# Altium footprint library micro-motorola.PCBLIB: 28 footprints (part 1 of 2)
Each footprint in its own frame and in the unit in brackets; x right, y up, seen from the top. Pads: shape width x height; smd on the part's side, far side on the other; paste and mask are expansions set on the pad; w line width, h text height; cw(c..) or ccw(c..) is an arc to the next point about the centre after c.
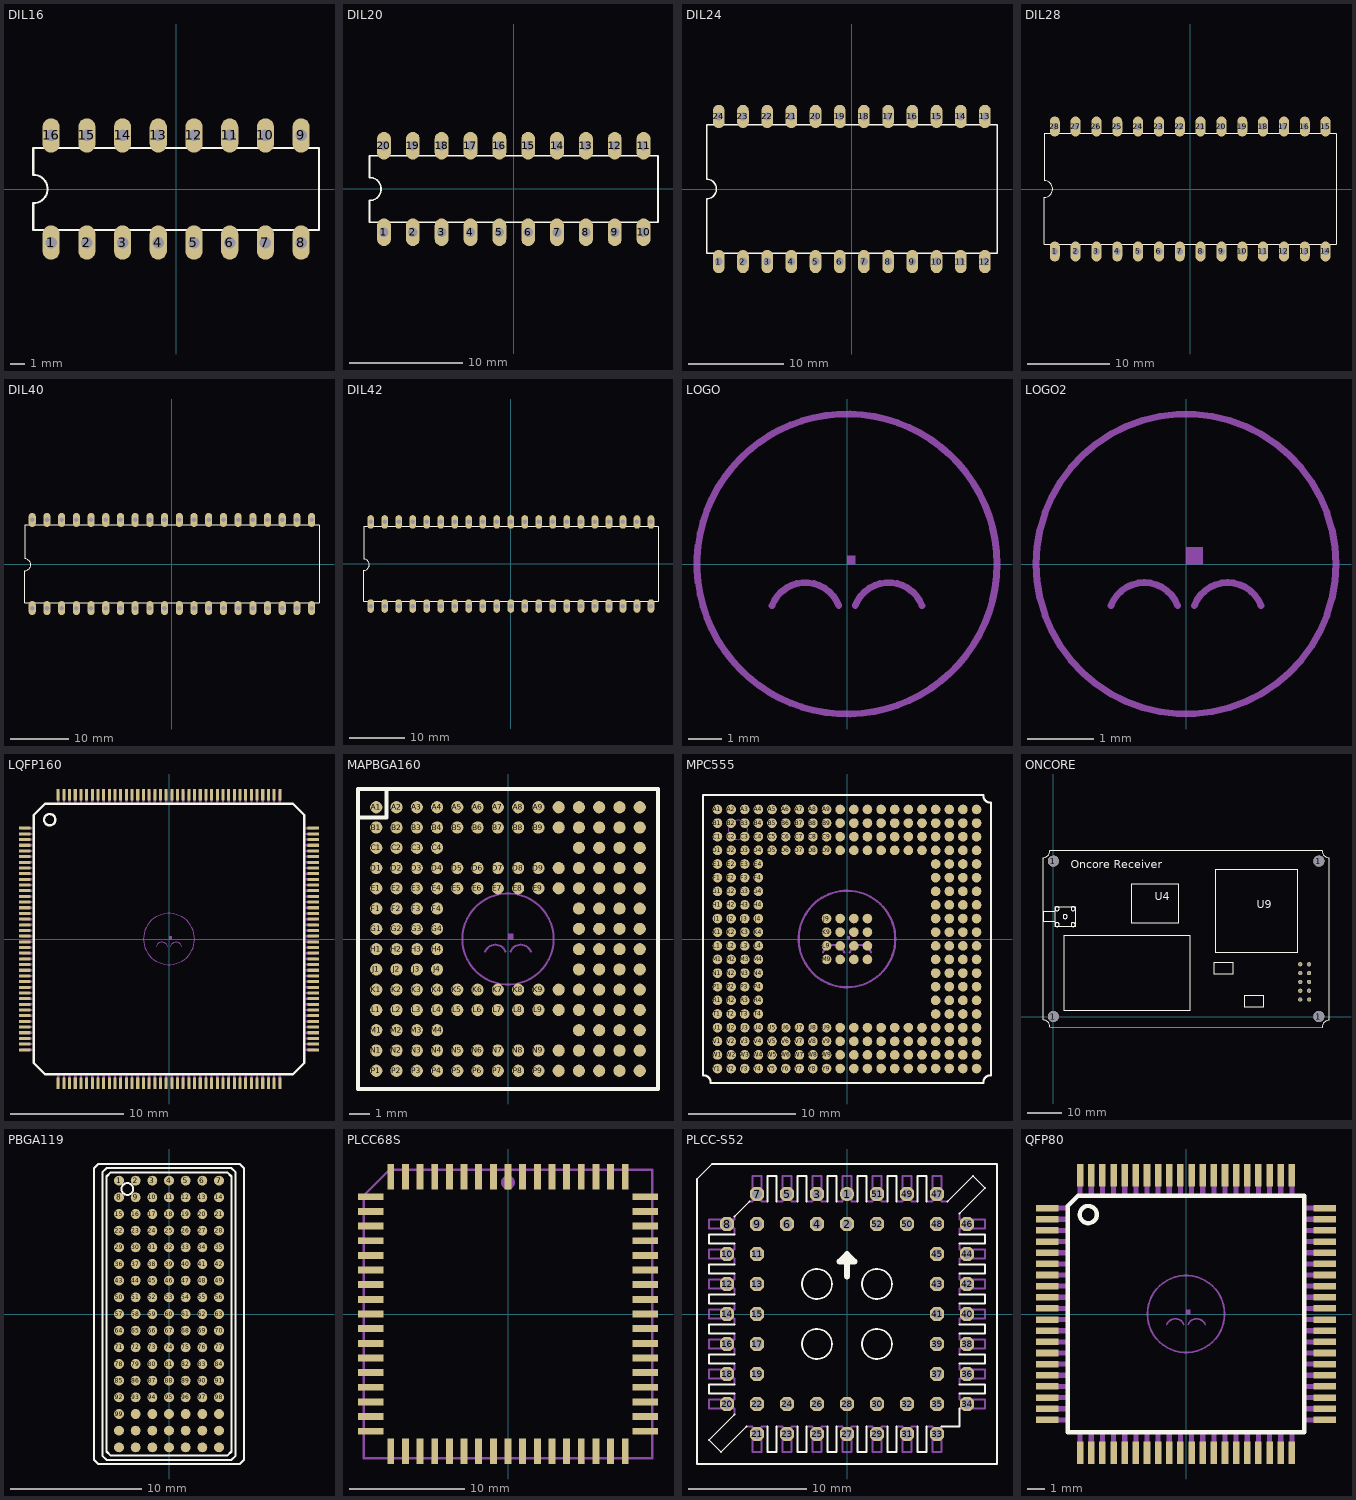
[diagram p0: the footprints below, top view; thin cyan lines are the x and y axes]

## DIL16 [mil]
pads (16):
  oval 48x96 hole 32: 1(-350,-150) 2(-250,-150) 3(-150,-150) 4(-50,-150) 5(50,-150) 6(150,-150) 7(250,-150) 8(350,-150) 9(350,150) 10(250,150) 11(150,150) 12(50,150) 13(-50,150) 14(-150,150) 15(-250,150) 16(-350,150)
Top Overlay:
  lines w6: -400,-115 400,-115 400,115 -400,115 -400,40 cw(c-400,0) -400,-40 -400,-115

## DIL20 [mil]
pads (20):
  oval 48x96 hole 32: 1(-450,-150) 2(-350,-150) 3(-250,-150) 4(-150,-150) 5(-50,-150) 6(50,-150) 7(150,-150) 8(250,-150) 9(350,-150) 10(450,-150) 11(450,150) 12(350,150) 13(250,150) 14(150,150) 15(50,150) 16(-50,150) 17(-150,150) 18(-250,150) 19(-350,150) 20(-450,150)
Top Overlay:
  lines w6: -500,-115 500,-115 500,115 -500,115 -500,40 cw(c-500,0) -500,-40 -500,-115

## DIL24 [mil]
pads (24):
  oval 48x96 hole 32: 1(-550,-300) 2(-450,-300) 3(-350,-300) 4(-250,-300) 5(-150,-300) 6(-50,-300) 7(50,-300) 8(150,-300) 9(250,-300) 10(350,-300) 11(450,-300) 12(550,-300) 13(550,300) 14(450,300) 15(350,300) 16(250,300) 17(150,300) 18(50,300) 19(-50,300) 20(-150,300) 21(-250,300) 22(-350,300) 23(-450,300) 24(-550,300)
Top Overlay:
  lines w6: -600,-265 -600,-40 ccw(c-600,0) -600,40 -600,265 600,265 600,-265 -600,-265

## DIL28 [mil]
pads (28):
  oval 48x96 hole 32: 1(-650,-300) 2(-550,-300) 3(-450,-300) 4(-350,-300) 5(-250,-300) 6(-150,-300) 7(-50,-300) 8(50,-300) 9(150,-300) 10(250,-300) 11(350,-300) 12(450,-300) 13(550,-300) 14(650,-300) 15(650,300) 16(550,300) 17(450,300) 18(350,300) 19(250,300) 20(150,300) 21(50,300) 22(-50,300) 23(-150,300) 24(-250,300) 25(-350,300) 26(-450,300) 27(-550,300) 28(-650,300)
Top Overlay:
  lines w6: -700,-265 700,-265 700,265 -700,265 -700,40 cw(c-700,0) -700,-40 -700,-265

## DIL40 [mil]
pads (40):
  oval 48x96 hole 32: 1(-950,-300) 2(-850,-300) 3(-750,-300) 4(-650,-300) 5(-550,-300) 6(-450,-300) 7(-350,-300) 8(-250,-300) 9(-150,-300) 10(-50,-300) 11(50,-300) 12(150,-300) 13(250,-300) 14(350,-300) 15(450,-300) 16(550,-300) 17(650,-300) 18(750,-300) 19(850,-300) 20(950,-300) 21(950,300) 22(850,300) 23(750,300) 24(650,300) 25(550,300) 26(450,300) 27(350,300) 28(250,300) 29(150,300) 30(50,300) 31(-50,300) 32(-150,300) 33(-250,300) 34(-350,300) 35(-450,300) 36(-550,300) 37(-650,300) 38(-750,300) 39(-850,300) 40(-950,300)
Top Overlay:
  lines w6: -1000,-265 1000,-265 1000,265 -1000,265 -1000,35 cw(c-1000,-5) -1000,-45 -1000,-265

## DIL42 [mil]
pads (42):
  oval 48x96 hole 32: 1(-1000,-300) 2(-900,-300) 3(-800,-300) 4(-700,-300) 5(-600,-300) 6(-500,-300) 7(-400,-300) 8(-300,-300) 9(-200,-300) 10(-100,-300) 11(0,-300) 12(100,-300) 13(200,-300) 14(300,-300) 15(400,-300) 16(500,-300) 17(600,-300) 18(700,-300) 19(800,-300) 20(900,-300) 21(1000,-300) 22(1000,300) 23(900,300) 24(800,300) 25(700,300) 26(600,300) 27(500,300) 28(400,300) 29(300,300) 30(200,300) 31(100,300) 32(0,300) 33(-100,300) 34(-200,300) 35(-300,300) 36(-400,300) 37(-500,300) 38(-600,300) 39(-700,300) 40(-800,300) 41(-900,300) 42(-1000,300)
Top Overlay:
  lines w6: -1050,-265 1050,-265 1050,265 -1050,265 -1050,35 cw(c-1050,-5) -1050,-45 -1050,-265

## LOGO [mil]
Mechanical 16:
  circle w8: c0,0 r177.17
  region: 0,0 10,0 10,10 0,10
  region: 0,0 10,0 10,10 0,10
  lines w8: -88.58,-49.21 cw(c-49.21,-63.97) -9.84,-49.21 ; 9.84,-49.21 cw(c49.21,-63.97) 88.58,-49.21

## LOGO2 [mil]
Mechanical 16:
  circle w4: c0,0 r88.58
  region: 0,0 10,0 10,10 0,10
  region: 0,0 10,0 10,10 0,10
  lines w4: -44.29,-24.61 cw(c-24.61,-31.99) -4.92,-24.61 ; 4.92,-24.61 cw(c24.61,-31.99) 44.29,-24.61

## LQFP160 [mm]
pads (160):
  rect 1x0.27 smd: 1(-12.7,9.75) 2(-12.7,9.25) 3(-12.7,8.75) 4(-12.7,8.25) 5(-12.7,7.75) 6(-12.7,7.25) 7(-12.7,6.75) 8(-12.7,6.25) 9(-12.7,5.75) 10(-12.7,5.25) 11(-12.7,4.75) 12(-12.7,4.25) 13(-12.7,3.75) 14(-12.7,3.25) 15(-12.7,2.75) 16(-12.7,2.25) 17(-12.7,1.75) 18(-12.7,1.25) 19(-12.7,0.75) 20(-12.7,0.25) 21(-12.7,-0.25) 22(-12.7,-0.75) 23(-12.7,-1.25) 24(-12.7,-1.75) 25(-12.7,-2.25) 26(-12.7,-2.75) 27(-12.7,-3.25) 28(-12.7,-3.75) 29(-12.7,-4.25) 30(-12.7,-4.75) 31(-12.7,-5.25) 32(-12.7,-5.75) 33(-12.7,-6.25) 34(-12.7,-6.75) 35(-12.7,-7.25) 36(-12.7,-7.75) 37(-12.7,-8.25) 38(-12.7,-8.75) 39(-12.7,-9.25) 40(-12.7,-9.75) 81(12.7,-9.75) 82(12.7,-9.25) 83(12.7,-8.75) 84(12.7,-8.25) 85(12.7,-7.75) 86(12.7,-7.25) 87(12.7,-6.75) 88(12.7,-6.25) 89(12.7,-5.75) 90(12.7,-5.25) 91(12.7,-4.75) 92(12.7,-4.25) 93(12.7,-3.75) 94(12.7,-3.25) 95(12.7,-2.75) 96(12.7,-2.25) 97(12.7,-1.75) 98(12.7,-1.25) 99(12.7,-0.75) 100(12.7,-0.25) 101(12.7,0.25) 102(12.7,0.75) 103(12.7,1.25) 104(12.7,1.75) 105(12.7,2.25) 106(12.7,2.75) 107(12.7,3.25) 108(12.7,3.75) 109(12.7,4.25) 110(12.7,4.75) 111(12.7,5.25) 112(12.7,5.75) 113(12.7,6.25) 114(12.7,6.75) 115(12.7,7.25) 116(12.7,7.75) 117(12.7,8.25) 118(12.7,8.75) 119(12.7,9.25) 120(12.7,9.75)
  rect 0.27x1 smd: 41(-9.75,-12.7) 42(-9.25,-12.7) 43(-8.75,-12.7) 44(-8.25,-12.7) 45(-7.75,-12.7) 46(-7.25,-12.7) 47(-6.75,-12.7) 48(-6.25,-12.7) 49(-5.75,-12.7) 50(-5.25,-12.7) 51(-4.75,-12.7) 52(-4.25,-12.7) 53(-3.75,-12.7) 54(-3.25,-12.7) 55(-2.75,-12.7) 56(-2.25,-12.7) 57(-1.75,-12.7) 58(-1.25,-12.7) 59(-0.75,-12.7) 60(-0.25,-12.7) 61(0.25,-12.7) 62(0.75,-12.7) 63(1.25,-12.7) 64(1.75,-12.7) 65(2.25,-12.7) 66(2.75,-12.7) 67(3.25,-12.7) 68(3.75,-12.7) 69(4.25,-12.7) 70(4.75,-12.7) 71(5.25,-12.7) 72(5.75,-12.7) 73(6.25,-12.7) 74(6.75,-12.7) 75(7.25,-12.7) 76(7.75,-12.7) 77(8.25,-12.7) 78(8.75,-12.7) 79(9.25,-12.7) 80(9.75,-12.7) 121(9.75,12.7) 122(9.25,12.7) 123(8.75,12.7) 124(8.25,12.7) 125(7.75,12.7) 126(7.25,12.7) 127(6.75,12.7) 128(6.25,12.7) 129(5.75,12.7) 130(5.25,12.7) 131(4.75,12.7) 132(4.25,12.7) 133(3.75,12.7) 134(3.25,12.7) 135(2.75,12.7) 136(2.25,12.7) 137(1.75,12.7) 138(1.25,12.7) 139(0.75,12.7) 140(0.25,12.7) 141(-0.25,12.7) 142(-0.75,12.7) 143(-1.25,12.7) 144(-1.75,12.7) 145(-2.25,12.7) 146(-2.75,12.7) 147(-3.25,12.7) 148(-3.75,12.7) 149(-4.25,12.7) 150(-4.75,12.7) 151(-5.25,12.7) 152(-5.75,12.7) 153(-6.25,12.7) 154(-6.75,12.7) 155(-7.25,12.7) 156(-7.75,12.7) 157(-8.25,12.7) 158(-8.75,12.7) 159(-9.25,12.7) 160(-9.75,12.7)
Top Overlay:
  circle w0.203: c-10.5,10.5 r0.5
  lines w0.203: -11.9,-10.9 -11.9,10.9 -10.9,11.9 10.9,11.9 11.9,10.9 11.9,-10.9 10.9,-11.9 -10.9,-11.9 -11.9,-10.9
Mechanical 16:
  drawing of 165 lines, arcs and shapes, not listed

## MAPBGA160 [mil]
pads (160):
  rrect100% 23.62x23.62 smd: A1(-255.91,255.91) A2(-216.54,255.91) A3(-177.17,255.91) A4(-137.8,255.91) A5(-98.43,255.91) A6(-59.06,255.91) A7(-19.69,255.91) A8(19.69,255.91) A9(59.06,255.91) A10(98.43,255.91) A11(137.8,255.91) A12(177.17,255.91) A13(216.54,255.91) A14(255.91,255.91) B1(-255.91,216.54) B2(-216.54,216.54) B3(-177.17,216.54) B4(-137.8,216.54) B5(-98.43,216.54) B6(-59.06,216.54) B7(-19.69,216.54) B8(19.69,216.54) B9(59.06,216.54) B10(98.43,216.54) B11(137.8,216.54) B12(177.17,216.54) B13(216.54,216.54) B14(255.91,216.54) C1(-255.91,177.17) C2(-216.54,177.17) C3(-177.17,177.17) C4(-137.8,177.17) C11(137.8,177.17) C12(177.17,177.17) C13(216.54,177.17) C14(255.91,177.17) D1(-255.91,137.8) D2(-216.54,137.8) D3(-177.17,137.8) D4(-137.8,137.8) D5(-98.43,137.8) D6(-59.06,137.8) D7(-19.69,137.8) D8(19.69,137.8) D9(59.06,137.8) D10(98.43,137.8) D11(137.8,137.8) D12(177.17,137.8) D13(216.54,137.8) D14(255.91,137.8) E1(-255.91,98.43) E2(-216.54,98.43) E3(-177.17,98.43) E4(-137.8,98.43) E5(-98.43,98.43) E6(-59.06,98.43) E7(-19.69,98.43) E8(19.69,98.43) E9(59.06,98.43) E10(98.43,98.43) E11(137.8,98.43) E12(177.17,98.43) E13(216.54,98.43) E14(255.91,98.43) F1(-255.91,59.06) F2(-216.54,59.06) F3(-177.17,59.06) F4(-137.8,59.06) F11(137.8,59.06) F12(177.17,59.06) F13(216.54,59.06) F14(255.91,59.06) G1(-255.91,19.69) G2(-216.54,19.69) G3(-177.17,19.69) G4(-137.8,19.69) G11(137.8,19.69) G12(177.17,19.69) G13(216.54,19.69) G14(255.91,19.69) H1(-255.91,-19.69) H2(-216.54,-19.69) H3(-177.17,-19.69) H4(-137.8,-19.69) H11(137.8,-19.69) H12(177.17,-19.69) H13(216.54,-19.69) H14(255.91,-19.69) J1(-255.91,-59.06) J2(-216.54,-59.06) J3(-177.17,-59.06) J4(-137.8,-59.06) J11(137.8,-59.06) J12(177.17,-59.06) J13(216.54,-59.06) J14(255.91,-59.06) K1(-255.91,-98.43) K2(-216.54,-98.43) K3(-177.17,-98.43) K4(-137.8,-98.43) K5(-98.43,-98.43) K6(-59.06,-98.43) K7(-19.69,-98.43) K8(19.69,-98.43) K9(59.06,-98.43) K10(98.43,-98.43) K11(137.8,-98.43) K12(177.17,-98.43) K13(216.54,-98.43) K14(255.91,-98.43) L1(-255.91,-137.8) L2(-216.54,-137.8) L3(-177.17,-137.8) L4(-137.8,-137.8) L5(-98.43,-137.8) L6(-59.06,-137.8) L7(-19.69,-137.8) L8(19.69,-137.8) L9(59.06,-137.8) L10(98.43,-137.8) L11(137.8,-137.8) L12(177.17,-137.8) L13(216.54,-137.8) L14(255.91,-137.8) M1(-255.91,-177.17) M2(-216.54,-177.17) M3(-177.17,-177.17) M4(-137.8,-177.17) M11(137.8,-177.17) M12(177.17,-177.17) M13(216.54,-177.17) M14(255.91,-177.17) N1(-255.91,-216.54) N2(-216.54,-216.54) N3(-177.17,-216.54) N4(-137.8,-216.54) N5(-98.43,-216.54) N6(-59.06,-216.54) N7(-19.69,-216.54) N8(19.69,-216.54) N9(59.06,-216.54) N10(98.43,-216.54) N11(137.8,-216.54) N12(177.17,-216.54) N13(216.54,-216.54) N14(255.91,-216.54) P1(-255.91,-255.91) P2(-216.54,-255.91) P3(-177.17,-255.91) P4(-137.8,-255.91) P5(-98.43,-255.91) P6(-59.06,-255.91) P7(-19.69,-255.91) P8(19.69,-255.91) P9(59.06,-255.91) P10(98.43,-255.91) P11(137.8,-255.91) P12(177.17,-255.91) P13(216.54,-255.91) P14(255.91,-255.91)
Top Overlay:
  lines w8: -287.4,236.22 -236.22,236.22 -236.22,289.37 ; -291.34,-291.34 291.34,-291.34 291.34,291.34 -291.34,291.34 -291.34,-291.34
Mechanical 16:
  circle w4: c0,0 r88.58
  region: 0,0 10,0 10,10 0,10
  region: 0,0 10,0 10,10 0,10
  lines w4: -44.29,-24.61 cw(c-24.61,-31.99) -4.92,-24.61 ; 4.92,-24.61 cw(c24.61,-31.99) 44.29,-24.61

## MPC555 [mil]
pads (272):
  rrect100% 35.43x35.43 smd: A1(-475,475) A2(-425,475) A3(-375,475) A4(-325,475) A5(-275,475) A6(-225,475) A7(-175,475) A8(-125,475) A9(-75,475) A10(-25,475) A11(25,475) A12(75,475) A13(125,475) A14(175,475) A15(225,475) A16(275,475) A17(325,475) A18(375,475) A19(425,475) A20(475,475) B1(-475,425) B2(-425,425) B3(-375,425) B4(-325,425) B5(-275,425) B6(-225,425) B7(-175,425) B8(-125,425) B9(-75,425) B10(-25,425) B11(25,425) B12(75,425) B13(125,425) B14(175,425) B15(225,425) B16(275,425) B17(325,425) B18(375,425) B19(425,425) B20(475,425) C1(-475,375) C2(-425,375) C3(-375,375) C4(-325,375) C5(-275,375) C6(-225,375) C7(-175,375) C8(-125,375) C9(-75,375) C10(-25,375) C11(25,375) C12(75,375) C13(125,375) C14(175,375) C15(225,375) C16(275,375) C17(325,375) C18(375,375) C19(425,375) C20(475,375) D1(-475,325) D2(-425,325) D3(-375,325) D4(-325,325) D5(-275,325) D6(-225,325) D7(-175,325) D8(-125,325) D9(-75,325) D10(-25,325) D11(25,325) D12(75,325) D13(125,325) D14(175,325) D15(225,325) D16(275,325) D17(325,325) D18(375,325) D19(425,325) D20(475,325) E1(-475,275) E2(-425,275) E3(-375,275) E4(-325,275) E17(325,275) E18(375,275) E19(425,275) E20(475,275) F1(-475,225) F2(-425,225) F3(-375,225) F4(-325,225) F17(325,225) F18(375,225) F19(425,225) F20(475,225) G1(-475,175) G2(-425,175) G3(-375,175) G4(-325,175) G17(325,175) G18(375,175) G19(425,175) G20(475,175) H1(-475,125) H2(-425,125) H3(-375,125) H4(-325,125) H17(325,125) H18(375,125) H19(425,125) H20(475,125) J1(-475,75) J2(-425,75) J3(-375,75) J4(-325,75) J9(-75,75) J10(-25,75) J11(25,75) J12(75,75) J17(325,75) J18(375,75) J19(425,75) J20(475,75) K1(-475,25) K2(-425,25) K3(-375,25) K4(-325,25) K9(-75,25) K10(-25,25) K11(25,25) K12(75,25) K17(325,25) K18(375,25) K19(425,25) K20(475,25) L1(-475,-25) L2(-425,-25) L3(-375,-25) L4(-325,-25) L9(-75,-25) L10(-25,-25) L11(25,-25) L12(75,-25) L17(325,-25) L18(375,-25) L19(425,-25) L20(475,-25) M1(-475,-75) M2(-425,-75) M3(-375,-75) M4(-325,-75) M9(-75,-75) M10(-25,-75) M11(25,-75) M12(75,-75) M17(325,-75) M18(375,-75) M19(425,-75) M20(475,-75) N1(-475,-125) N2(-425,-125) N3(-375,-125) N4(-325,-125) N17(325,-125) N18(375,-125) N19(425,-125) N20(475,-125) P1(-475,-175) P2(-425,-175) P3(-375,-175) P4(-325,-175) P17(325,-175) P18(375,-175) P19(425,-175) P20(475,-175) R1(-475,-225) R2(-425,-225) R3(-375,-225) R4(-325,-225) R17(325,-225) R18(375,-225) R19(425,-225) R20(475,-225) T1(-475,-275) T2(-425,-275) T3(-375,-275) T4(-325,-275) T17(325,-275) T18(375,-275) T19(425,-275) T20(475,-275) U1(-475,-325) U2(-425,-325) U3(-375,-325) U4(-325,-325) U5(-275,-325) U6(-225,-325) U7(-175,-325) U8(-125,-325) U9(-75,-325) U10(-25,-325) U11(25,-325) U12(75,-325) U13(125,-325) U14(175,-325) U15(225,-325) U16(275,-325) U17(325,-325) U18(375,-325) U19(425,-325) U20(475,-325) V1(-475,-375) V2(-425,-375) V3(-375,-375) V4(-325,-375) V5(-275,-375) V6(-225,-375) V7(-175,-375) V8(-125,-375) V9(-75,-375) V10(-25,-375) V11(25,-375) V12(75,-375) V13(125,-375) V14(175,-375) V15(225,-375) V16(275,-375) V17(325,-375) V18(375,-375) V19(425,-375) V20(475,-375) W1(-475,-425) W2(-425,-425) W3(-375,-425) W4(-325,-425) W5(-275,-425) W6(-225,-425) W7(-175,-425) W8(-125,-425) W9(-75,-425) W10(-25,-425) W11(25,-425) W12(75,-425) W13(125,-425) W14(175,-425) W15(225,-425) W16(275,-425) W17(325,-425) W18(375,-425) W19(425,-425) W20(475,-425) Y1(-475,-475) Y2(-425,-475) Y3(-375,-475) Y4(-325,-475) Y5(-275,-475) Y6(-225,-475) Y7(-175,-475) Y8(-125,-475) Y9(-75,-475) Y10(-25,-475) Y11(25,-475) Y12(75,-475) Y13(125,-475) Y14(175,-475) Y15(225,-475) Y16(275,-475) Y17(325,-475) Y18(375,-475) Y19(425,-475) Y20(475,-475)
Top Overlay:
  lines w8: -527.56,-500 -527.56,527.56 500,527.56 ; -525,-500 cw(c-525,-525) -500,-525 ; -500,-527.56 500,-527.56 ; 500,-525 cw(c525,-525) 525,-500 ; 500,525 ccw(c525,525) 525,500 ; 527.56,-500 527.56,500
Mechanical 16:
  circle w0: c-400,400 r35.35
  circle w8: c0,0 r177.17
  region: 0,0 10,0 10,10 0,10
  region: 0,0 10,0 10,10 0,10
  lines w8: -88.58,-49.21 cw(c-49.21,-63.97) -9.84,-49.21 ; 9.84,-49.21 cw(c49.21,-63.97) 88.58,-49.21
  text "CASE 1135A-01" at -125,-225 h37.2

## ONCORE [mil]
pads (14):
  round 125.98 hole 125.98: 1(0,0) 1(0,1763.78) 1(3013.78,0) 1(3013.78,1763.78)
  round 48 hole 32: 1(2803.15,192.91) 2(2903.15,192.91) 3(2803.15,292.91) 4(2903.15,292.91) 5(2803.15,392.91) 6(2903.15,392.91) 7(2803.15,492.91) 8(2903.15,492.91) 9(2803.15,592.91) 10(2903.15,592.91)
Top Overlay:
  circle w6: c133.86,1133.86 r23.62
  circle w6: c43.31,1224.41 r23.62
  circle w6: c224.41,1224.41 r23.62
  circle w6: c224.41,1043.31 r23.62
  circle w6: c43.31,1043.31 r23.62
  lines w6: 15.75,1078.74 -114.17,1078.74 -114.17,1188.98 15.75,1188.98 ; 3129.92,-43.31 ccw(c3129.92,-122.05) 3051.18,-122.05 -39.37,-118.11 ccw(c-118.11,-118.11) -118.11,-39.37 -118.11,1803.15 ccw(c-118.11,1881.89) -39.37,1881.89 3051.18,1881.89 ccw(c3129.92,1881.89) 3129.92,1803.15 ; 3131.89,-43.31 3131.89,1803.15 ; 19.69,1019.69 248.03,1019.69 248.03,1248.03 19.69,1248.03 19.69,1019.69 ; 122.05,62.99 122.05,921.26 1547.24,921.26 1547.24,62.99 122.05,62.99 ; 889.76,1059.06 1417.32,1059.06 1417.32,1507.87 889.76,1507.87 889.76,1059.06 ; 1822.83,484.25 1822.83,610.24 2043.31,610.24 2043.31,484.25 1822.83,484.25 ; 1838.58,728.35 2775.59,728.35 2775.59,1665.35 1838.58,1665.35 1838.58,728.35 ; 2165.35,110.24 2165.35,236.22 2385.83,236.22 2385.83,110.24 2165.35,110.24
  text "U4" at 1153.54,1283.46 h155
  text "U9" at 2307.09,1196.85 h155
  text "Oncore Receiver" at 200,1650 h155

## PBGA119 [mil]
pads (119):
  rrect100% 29.53x29.53 smd: 1(-150,400) 2(-100,400) 3(-50,400) 4(0,400) 5(50,400) 6(100,400) 7(150,400) 8(-150,350) 9(-100,350) 10(-50,350) 11(0,350) 12(50,350) 13(100,350) 14(150,350) 15(-150,300) 16(-100,300) 17(-50,300) 18(0,300) 19(50,300) 20(100,300) 21(150,300) 22(-150,250) 23(-100,250) 24(-50,250) 25(0,250) 26(50,250) 27(100,250) 28(150,250) 29(-150,200) 30(-100,200) 31(-50,200) 32(0,200) 33(50,200) 34(100,200) 35(150,200) 36(-150,150) 37(-100,150) 38(-50,150) 39(0,150) 40(50,150) 41(100,150) 42(150,150) 43(-150,100) 44(-100,100) 45(-50,100) 46(0,100) 47(50,100) 48(100,100) 49(150,100) 50(-150,50) 51(-100,50) 52(-50,50) 53(0,50) 54(50,50) 55(100,50) 56(150,50) 57(-150,0) 58(-100,0) 59(-50,0) 60(0,0) 61(50,0) 62(100,0) 63(150,0) 64(-150,-50) 65(-100,-50) 66(-50,-50) 67(0,-50) 68(50,-50) 69(100,-50) 70(150,-50) 71(-150,-100) 72(-100,-100) 73(-50,-100) 74(0,-100) 75(50,-100) 76(100,-100) 77(150,-100) 78(-150,-150) 79(-100,-150) 80(-50,-150) 81(0,-150) 82(50,-150) 83(100,-150) 84(150,-150) 85(-150,-200) 86(-100,-200) 87(-50,-200) 88(0,-200) 89(50,-200) 90(100,-200) 91(150,-200) 92(-150,-250) 93(-100,-250) 94(-50,-250) 95(0,-250) 96(50,-250) 97(100,-250) 98(150,-250) 99(-150,-300) 100(-100,-300) 101(-50,-300) 102(0,-300) 103(50,-300) 104(100,-300) 105(150,-300) 106(-150,-350) 107(-100,-350) 108(-50,-350) 109(0,-350) 110(50,-350) 111(100,-350) 112(150,-350) 113(-150,-400) 114(-100,-400) 115(-50,-400) 116(0,-400) 117(50,-400) 118(100,-400) 119(150,-400)
Top Overlay:
  circle w6: c-125,375 r17.68
  lines w6: -225,-437.5 -225,437.5 -212.5,450 212.5,450 225,437.5 225,-437.5 212.5,-450 -212.5,-450 -225,-437.5 ; -200,-425 -187.5,-437.5 187.5,-437.5 200,-425 200,425 187.5,437.5 -187.5,437.5 -200,425 -200,-425 ; -187.5,-412.5 -187.5,412.5 -175,425 175,425 187.5,412.5 187.5,-412.5 175,-425 -175,-425 -187.5,-412.5

## PLCC68S [mil]
pads (68):
  rect 23.62x86.61 smd: 1(0,468.5) 2(-50,468.5) 3(-100,468.5) 4(-150,468.5) 5(-200,468.5) 6(-250,468.5) 7(-300,468.5) 8(-350,468.5) 9(-400,468.5) 27(-400,-468.5) 28(-350,-468.5) 29(-300,-468.5) 30(-250,-468.5) 31(-200,-468.5) 32(-150,-468.5) 33(-100,-468.5) 34(-50,-468.5) 35(0,-468.5) 36(50,-468.5) 37(100,-468.5) 38(150,-468.5) 39(200,-468.5) 40(250,-468.5) 41(300,-468.5) 42(350,-468.5) 43(400,-468.5) 61(400,468.5) 62(350,468.5) 63(300,468.5) 64(250,468.5) 65(200,468.5) 66(150,468.5) 67(100,468.5) 68(50,468.5)
  rect 86.61x23.62 smd: 10(-468.5,400) 11(-468.5,350) 12(-468.5,300) 13(-468.5,250) 14(-468.5,200) 15(-468.5,150) 16(-468.5,100) 17(-468.5,50) 18(-468.5,0) 19(-468.5,-50) 20(-468.5,-100) 21(-468.5,-150) 22(-468.5,-200) 23(-468.5,-250) 24(-468.5,-300) 25(-468.5,-350) 26(-468.5,-400) 44(468.5,-400) 45(468.5,-350) 46(468.5,-300) 47(468.5,-250) 48(468.5,-200) 49(468.5,-150) 50(468.5,-100) 51(468.5,-50) 52(468.5,0) 53(468.5,50) 54(468.5,100) 55(468.5,150) 56(468.5,200) 57(468.5,250) 58(468.5,300) 59(468.5,350) 60(468.5,400)
Mechanical 16:
  circle w24: c0,448.82 r11.81
  rectangle: -10.24,494.09 10.24,511.81
  rectangle: -60.24,494.09 -39.76,511.81
  rectangle: -110.24,494.09 -89.76,511.81
  rectangle: -160.24,494.09 -139.76,511.81
  rectangle: -210.24,494.09 -189.76,511.81
  rectangle: -260.24,494.09 -239.76,511.81
  rectangle: -310.24,494.09 -289.76,511.81
  rectangle: -360.24,494.09 -339.76,511.81
  rectangle: -410.24,494.09 -389.76,511.81
  rectangle: -511.81,389.76 -494.09,410.24
  rectangle: -511.81,339.76 -494.09,360.24
  rectangle: -511.81,289.76 -494.09,310.24
  rectangle: -511.81,239.76 -494.09,260.24
  rectangle: -511.81,189.76 -494.09,210.24
  rectangle: -511.81,139.76 -494.09,160.24
  rectangle: -511.81,89.76 -494.09,110.24
  rectangle: -511.81,39.76 -494.09,60.24
  rectangle: -511.81,-10.24 -494.09,10.24
  rectangle: -511.81,-60.24 -494.09,-39.76
  rectangle: -511.81,-110.24 -494.09,-89.76
  rectangle: -511.81,-160.24 -494.09,-139.76
  rectangle: -511.81,-210.24 -494.09,-189.76
  rectangle: -511.81,-260.24 -494.09,-239.76
  rectangle: -511.81,-310.24 -494.09,-289.76
  rectangle: -511.81,-360.24 -494.09,-339.76
  rectangle: -511.81,-410.24 -494.09,-389.76
  rectangle: -410.24,-511.81 -389.76,-494.09
  rectangle: -360.24,-511.81 -339.76,-494.09
  rectangle: -310.24,-511.81 -289.76,-494.09
  rectangle: -260.24,-511.81 -239.76,-494.09
  rectangle: -210.24,-511.81 -189.76,-494.09
  rectangle: -160.24,-511.81 -139.76,-494.09
  rectangle: -110.24,-511.81 -89.76,-494.09
  rectangle: -60.24,-511.81 -39.76,-494.09
  rectangle: -10.24,-511.81 10.24,-494.09
  rectangle: 39.76,-511.81 60.24,-494.09
  rectangle: 89.76,-511.81 110.24,-494.09
  rectangle: 139.76,-511.81 160.24,-494.09
  rectangle: 189.76,-511.81 210.24,-494.09
  rectangle: 239.76,-511.81 260.24,-494.09
  rectangle: 289.76,-511.81 310.24,-494.09
  rectangle: 339.76,-511.81 360.24,-494.09
  rectangle: 389.76,-511.81 410.24,-494.09
  rectangle: 494.09,-410.24 511.81,-389.76
  rectangle: 494.09,-360.24 511.81,-339.76
  rectangle: 494.09,-310.24 511.81,-289.76
  rectangle: 494.09,-260.24 511.81,-239.76
  rectangle: 494.09,-210.24 511.81,-189.76
  rectangle: 494.09,-160.24 511.81,-139.76
  rectangle: 494.09,-110.24 511.81,-89.76
  rectangle: 494.09,-60.24 511.81,-39.76
  rectangle: 494.09,-10.24 511.81,10.24
  rectangle: 494.09,39.76 511.81,60.24
  rectangle: 494.09,89.76 511.81,110.24
  rectangle: 494.09,139.76 511.81,160.24
  rectangle: 494.09,189.76 511.81,210.24
  rectangle: 494.09,239.76 511.81,260.24
  rectangle: 494.09,289.76 511.81,310.24
  rectangle: 494.09,339.76 511.81,360.24
  rectangle: 494.09,389.76 511.81,410.24
  rectangle: 389.76,494.09 410.24,511.81
  rectangle: 339.76,494.09 360.24,511.81
  rectangle: 289.76,494.09 310.24,511.81
  rectangle: 239.76,494.09 260.24,511.81
  rectangle: 189.76,494.09 210.24,511.81
  rectangle: 139.76,494.09 160.24,511.81
  rectangle: 89.76,494.09 110.24,511.81
  rectangle: 39.76,494.09 60.24,511.81
  lines w8: -492.13,-492.13 -492.13,404.13 -404.13,492.13 492.13,492.13 492.13,-492.13 -492.13,-492.13

## PLCC-S52 [mil]
pads (52):
  round 48 hole 32: 1(0,400)
  oct 48x48 hole 32: 2(0,300) 3(-100,400) 4(-100,300) 5(-200,400) 6(-200,300) 7(-300,400) 8(-400,300) 9(-300,300) 10(-400,200) 11(-300,200) 12(-400,100) 13(-300,100) 14(-400,0) 15(-300,0) 16(-400,-100) 17(-300,-100) 18(-400,-200) 19(-300,-200) 20(-400,-300) 21(-300,-400) 22(-300,-300) 23(-200,-400) 24(-200,-300) 25(-100,-400) 26(-100,-300) 27(0,-400) 28(0,-300) 29(100,-400) 30(100,-300) 31(200,-400) 32(200,-300) 33(300,-400) 34(400,-300) 35(300,-300) 36(400,-200) 37(300,-200) 38(400,-100) 39(300,-100) 40(400,0) 41(300,0) 42(400,100) 43(300,100) 44(400,200) 45(300,200) 46(400,300) 47(300,400) 48(300,300) 49(200,400) 50(200,300) 51(100,400) 52(100,300)
Top Overlay:
  circle w6: c-100,100 r50
  circle w6: c100,100 r50
  circle w6: c-100,-100 r50
  circle w6: c100,-100 r50
  lines w6: -375,-335 -460,-420 -420,-460 -335,-375 ; -375,-265 -460,-265 -460,-235 -375,-235 ; -375,-165 -460,-165 -460,-135 -375,-135 ; -375,-65 -460,-65 -460,-35 -375,-35 ; -375,35 -460,35 -460,65 -375,65 ; -375,135 -460,135 -460,165 -375,165 ; -375,235 -460,235 -460,265 -375,265 ; -375,325 -325,375 ; -265,-375 -265,-460 -235,-460 -235,-375 ; -265,375 -265,460 -235,460 -235,375 ; -165,-375 -165,-460 -135,-460 -135,-375 ; -165,375 -165,460 -135,460 -135,375 ; -65,-375 -65,-460 -35,-460 -35,-375 ; -65,375 -65,460 -35,460 -35,375 ; 35,-375 35,-460 65,-460 65,-375 ; 35,375 35,460 65,460 65,375 ; 135,-375 135,-460 165,-460 165,-375 ; 135,375 135,460 165,460 165,375 ; 235,-375 235,-460 265,-460 265,-375 ; 235,375 235,460 265,460 265,375 ; 315,-375 375,-375 375,-315 ; 335,375 420,460 460,420 375,335 ; 375,-265 460,-265 460,-235 375,-235 ; 375,-165 460,-165 460,-135 375,-135 ; 375,-65 460,-65 460,-35 375,-35 ; 375,35 460,35 460,65 375,65 ; 375,135 460,135 460,165 375,165 ; 375,235 460,235 460,265 375,265 ; -500,-500 -500,450 -450,500 500,500 500,-500 -500,-500
  lines w20: 0,125 0,200 ; 0,200 25,175 -25,175 0,200
Mechanical 16:
  lines w6: -375,-335 -375,-315 -460,-315 -460,-285 -375,-285 -375,-265 ; -375,-235 -375,-215 -460,-215 -460,-185 -375,-185 -375,-165 ; -375,-135 -375,-115 -460,-115 -460,-85 -375,-85 -375,-65 ; -375,-35 -375,-15 -460,-15 -460,15 -375,15 -375,35 ; -375,65 -375,85 -460,85 -460,115 -375,115 -375,135 ; -375,165 -375,185 -460,185 -460,215 -375,215 -375,235 ; -375,265 -375,285 -460,285 -460,315 -375,315 -375,325 ; -335,-375 -315,-375 -315,-460 -285,-460 -285,-375 -265,-375 ; -325,375 -315,375 -315,460 -285,460 -285,375 -265,375 ; -235,-375 -215,-375 -215,-460 -185,-460 -185,-375 -165,-375 ; -235,375 -215,375 -215,460 -185,460 -185,375 -165,375 ; -135,-375 -115,-375 -115,-460 -85,-460 -85,-375 -65,-375 ; -135,375 -115,375 -115,460 -85,460 -85,375 -65,375 ; -35,-375 -15,-375 -15,-460 15,-460 15,-375 35,-375 ; -35,375 -15,375 -15,460 15,460 15,375 35,375 ; 65,-375 85,-375 85,-460 115,-460 115,-375 135,-375 ; 65,375 85,375 85,460 115,460 115,375 135,375 ; 165,-375 185,-375 185,-460 215,-460 215,-375 235,-375 ; 165,375 185,375 185,460 215,460 215,375 235,375 ; 265,-375 285,-375 285,-460 315,-460 315,-375 ; 265,375 285,375 285,460 315,460 315,375 335,375 ; 375,-315 460,-315 460,-285 375,-285 375,-265 ; 375,-235 375,-215 460,-215 460,-185 375,-185 375,-165 ; 375,-135 375,-115 460,-115 460,-85 375,-85 375,-65 ; 375,-35 375,-15 460,-15 460,15 375,15 375,35 ; 375,65 375,85 460,85 460,115 375,115 375,135 ; 375,165 375,185 460,185 460,215 375,215 375,235 ; 375,265 375,285 460,285 460,315 375,315 375,335

## QFP80 [mm]
pads (80):
  rect 1.3x0.38 smd: 1(-8.1,6.175) 2(-8.1,5.525) 3(-8.1,4.875) 4(-8.1,4.225) 5(-8.1,3.575) 6(-8.1,2.925) 7(-8.1,2.275) 8(-8.1,1.625) 9(-8.1,0.975) 10(-8.1,0.325) 11(-8.1,-0.325) 12(-8.1,-0.975) 13(-8.1,-1.625) 14(-8.1,-2.275) 15(-8.1,-2.925) 16(-8.1,-3.575) 17(-8.1,-4.225) 18(-8.1,-4.875) 19(-8.1,-5.525) 20(-8.1,-6.175) 41(8.1,-6.175) 42(8.1,-5.525) 43(8.1,-4.875) 44(8.1,-4.225) 45(8.1,-3.575) 46(8.1,-2.925) 47(8.1,-2.275) 48(8.1,-1.625) 49(8.1,-0.975) 50(8.1,-0.325) 51(8.1,0.325) 52(8.1,0.975) 53(8.1,1.625) 54(8.1,2.275) 55(8.1,2.925) 56(8.1,3.575) 57(8.1,4.225) 58(8.1,4.875) 59(8.1,5.525) 60(8.1,6.175)
  rect 0.38x1.3 smd: 21(-6.175,-8.1) 22(-5.525,-8.1) 23(-4.875,-8.1) 24(-4.225,-8.1) 25(-3.575,-8.1) 26(-2.925,-8.1) 27(-2.275,-8.1) 28(-1.625,-8.1) 29(-0.975,-8.1) 30(-0.325,-8.1) 31(0.325,-8.1) 32(0.975,-8.1) 33(1.625,-8.1) 34(2.275,-8.1) 35(2.925,-8.1) 36(3.575,-8.1) 37(4.225,-8.1) 38(4.875,-8.1) 39(5.525,-8.1) 40(6.175,-8.1) 61(6.175,8.1) 62(5.525,8.1) 63(4.875,8.1) 64(4.225,8.1) 65(3.575,8.1) 66(2.925,8.1) 67(2.275,8.1) 68(1.625,8.1) 69(0.975,8.1) 70(0.325,8.1) 71(-0.325,8.1) 72(-0.975,8.1) 73(-1.625,8.1) 74(-2.275,8.1) 75(-2.925,8.1) 76(-3.575,8.1) 77(-4.225,8.1) 78(-4.875,8.1) 79(-5.525,8.1) 80(-6.175,8.1)
Top Overlay:
  circle w0.254: c-5.7,5.8 r0.5
  lines w0.254: -6.9,-6.9 -6.9,6.3 -6.3,6.9 6.9,6.9 6.9,-6.9 -6.9,-6.9
Mechanical 16:
  circle w0.102: c0,0 r2.25
  rectangle: -8.6,6.025 -6.95,6.325
  rectangle: -8.6,5.375 -6.95,5.675
  rectangle: -8.6,4.725 -6.95,5.025
  rectangle: -8.6,4.075 -6.95,4.375
  rectangle: -8.6,3.425 -6.95,3.725
  rectangle: -8.6,2.775 -6.95,3.075
  rectangle: -8.6,2.125 -6.95,2.425
  rectangle: -8.6,1.475 -6.95,1.775
  rectangle: -8.6,0.825 -6.95,1.125
  rectangle: -8.6,0.175 -6.95,0.475
  rectangle: -8.6,-0.475 -6.95,-0.175
  rectangle: -8.6,-1.125 -6.95,-0.825
  rectangle: -8.6,-1.775 -6.95,-1.475
  rectangle: -8.6,-2.425 -6.95,-2.125
  rectangle: -8.6,-3.075 -6.95,-2.775
  rectangle: -8.6,-3.725 -6.95,-3.425
  rectangle: -8.6,-4.375 -6.95,-4.075
  rectangle: -8.6,-5.025 -6.95,-4.725
  rectangle: -8.6,-5.675 -6.95,-5.375
  rectangle: -8.6,-6.325 -6.95,-6.025
  rectangle: -6.325,-8.6 -6.025,-6.95
  rectangle: -5.675,-8.6 -5.375,-6.95
  rectangle: -5.025,-8.6 -4.725,-6.95
  rectangle: -4.375,-8.6 -4.075,-6.95
  rectangle: -3.725,-8.6 -3.425,-6.95
  rectangle: -3.075,-8.6 -2.775,-6.95
  rectangle: -2.425,-8.6 -2.125,-6.95
  rectangle: -1.775,-8.6 -1.475,-6.95
  rectangle: -1.125,-8.6 -0.825,-6.95
  rectangle: -0.475,-8.6 -0.175,-6.95
  rectangle: 0.175,-8.6 0.475,-6.95
  rectangle: 0.825,-8.6 1.125,-6.95
  rectangle: 1.475,-8.6 1.775,-6.95
  rectangle: 2.125,-8.6 2.425,-6.95
  rectangle: 2.775,-8.6 3.075,-6.95
  rectangle: 3.425,-8.6 3.725,-6.95
  rectangle: 4.075,-8.6 4.375,-6.95
  rectangle: 4.725,-8.6 5.025,-6.95
  rectangle: 5.375,-8.6 5.675,-6.95
  rectangle: 6.025,-8.6 6.325,-6.95
  rectangle: 6.95,-6.325 8.6,-6.025
  rectangle: 6.95,-5.675 8.6,-5.375
  rectangle: 6.95,-5.025 8.6,-4.725
  rectangle: 6.95,-4.375 8.6,-4.075
  rectangle: 6.95,-3.725 8.6,-3.425
  rectangle: 6.95,-3.075 8.6,-2.775
  rectangle: 6.95,-2.425 8.6,-2.125
  rectangle: 6.95,-1.775 8.6,-1.475
  rectangle: 6.95,-1.125 8.6,-0.825
  rectangle: 6.95,-0.475 8.6,-0.175
  rectangle: 6.95,0.175 8.6,0.475
  rectangle: 6.95,0.825 8.6,1.125
  rectangle: 6.95,1.475 8.6,1.775
  rectangle: 6.95,2.125 8.6,2.425
  rectangle: 6.95,2.775 8.6,3.075
  rectangle: 6.95,3.425 8.6,3.725
  rectangle: 6.95,4.075 8.6,4.375
  rectangle: 6.95,4.725 8.6,5.025
  rectangle: 6.95,5.375 8.6,5.675
  rectangle: 6.95,6.025 8.6,6.325
  rectangle: 6.025,6.95 6.325,8.6
  rectangle: 5.375,6.95 5.675,8.6
  rectangle: 4.725,6.95 5.025,8.6
  rectangle: 4.075,6.95 4.375,8.6
  rectangle: 3.425,6.95 3.725,8.6
  rectangle: 2.775,6.95 3.075,8.6
  rectangle: 2.125,6.95 2.425,8.6
  rectangle: 1.475,6.95 1.775,8.6
  rectangle: 0.825,6.95 1.125,8.6
  rectangle: 0.175,6.95 0.475,8.6
  rectangle: -0.475,6.95 -0.175,8.6
  rectangle: -1.125,6.95 -0.825,8.6
  rectangle: -1.775,6.95 -1.475,8.6
  rectangle: -2.425,6.95 -2.125,8.6
  rectangle: -3.075,6.95 -2.775,8.6
  rectangle: -3.725,6.95 -3.425,8.6
  rectangle: -4.375,6.95 -4.075,8.6
  rectangle: -5.025,6.95 -4.725,8.6
  rectangle: -5.675,6.95 -5.375,8.6
  rectangle: -6.325,6.95 -6.025,8.6
  region: 0,0 0.254,0 0.254,0.254 0,0.254
  region: 0,0 0.254,0 0.254,0.254 0,0.254
  lines w0.102: -1.125,-0.625 cw(c-0.625,-0.813) -0.125,-0.625 ; 0.125,-0.625 cw(c0.625,-0.813) 1.125,-0.625